# EAGLE library part LM3S9U96 (library stellaris)
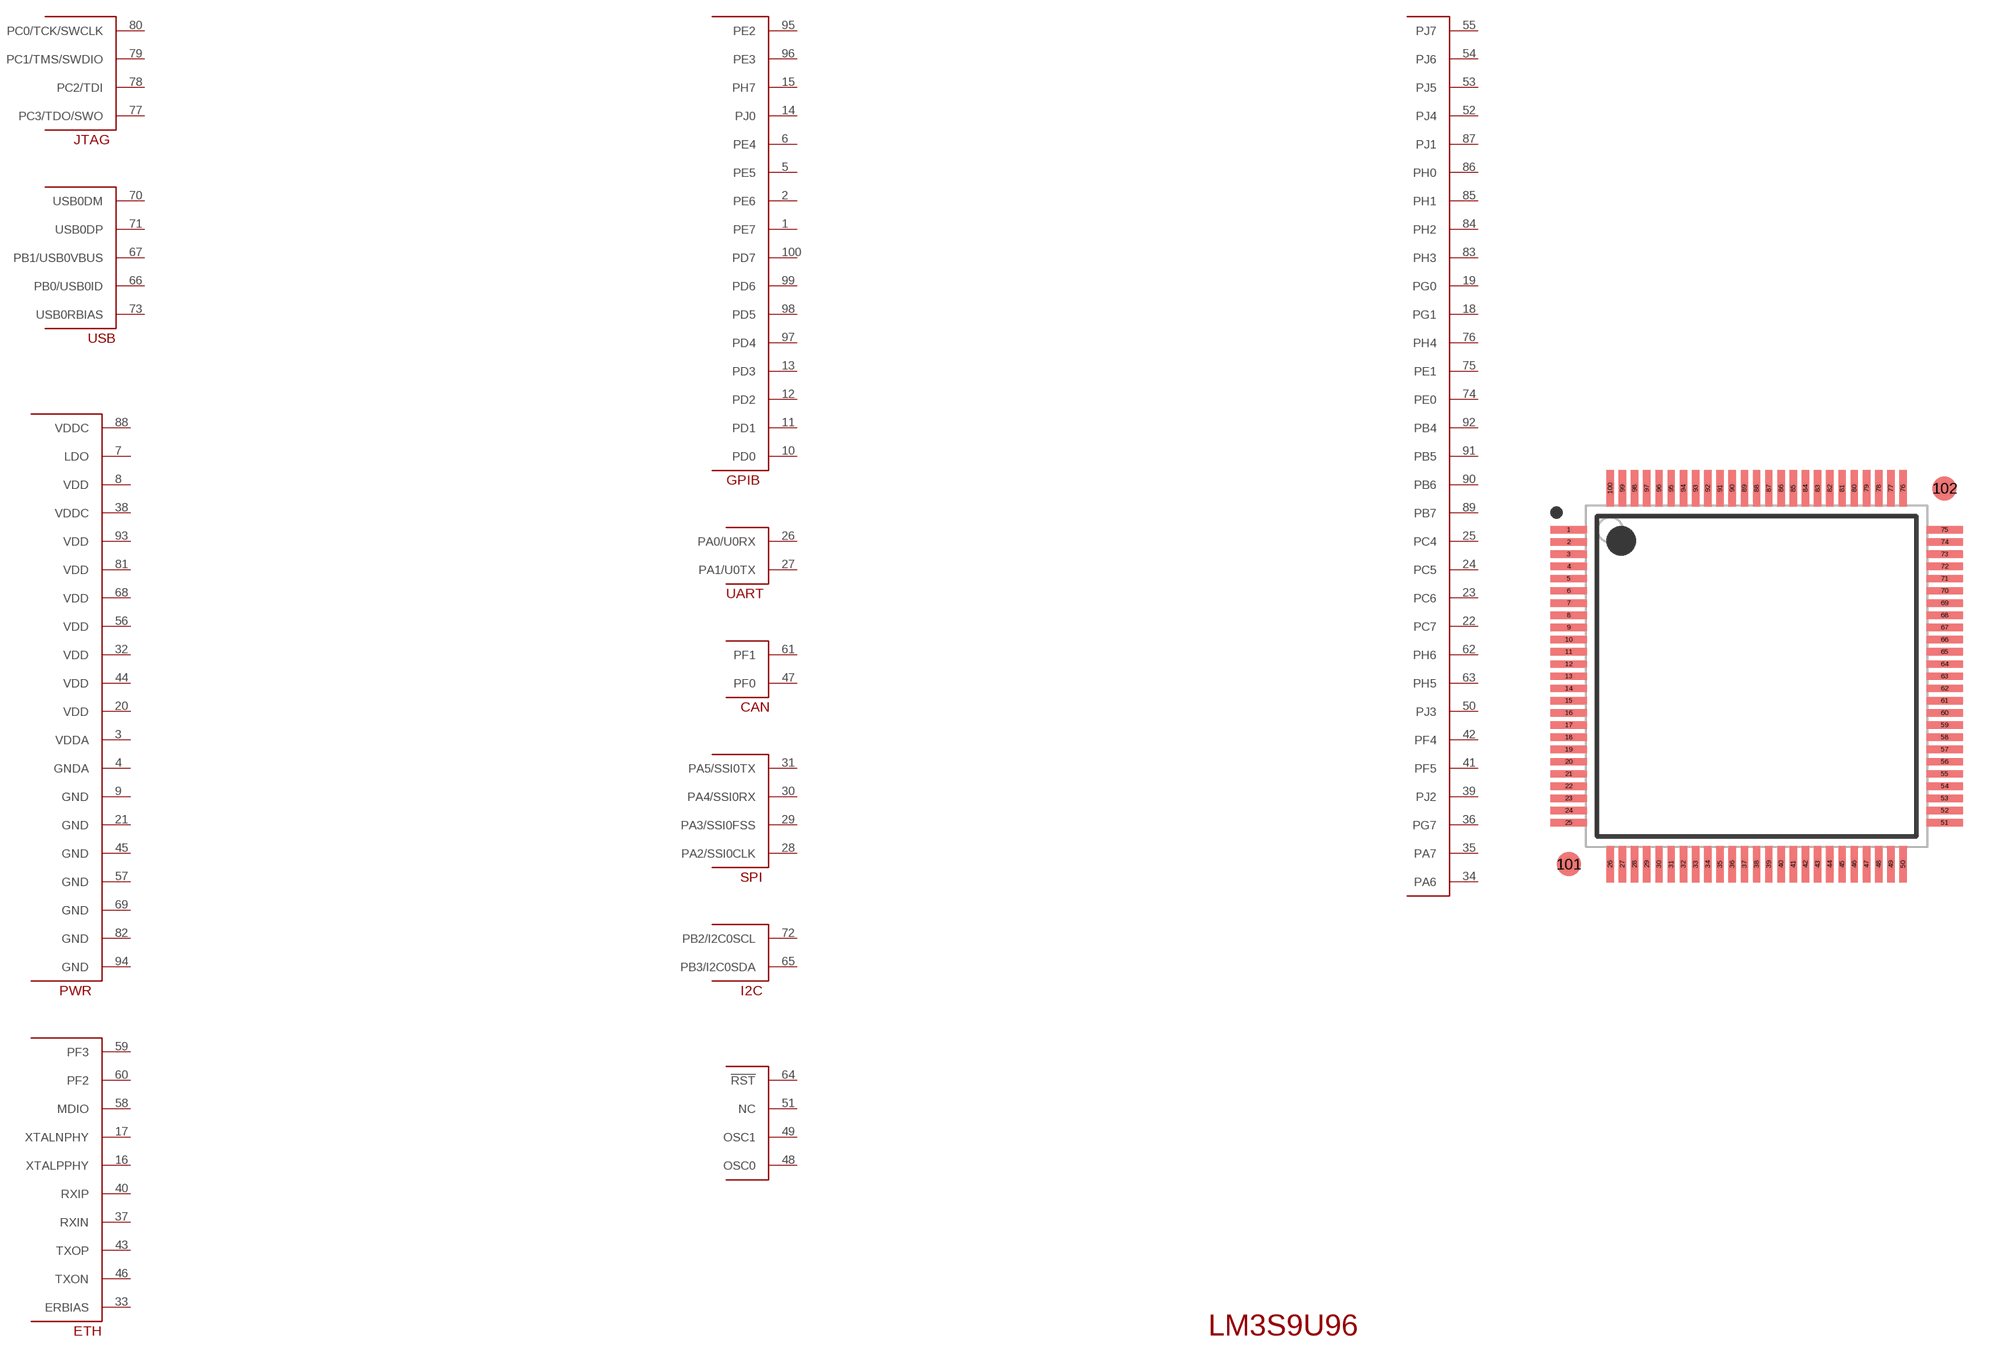
[diagram p1: symbol with the pads of QFP50P1600X1600X160-100N; footprint QFP50P1600X1600X160-100N]

Designator prefix -

## LM3S9U96  [QFP50P1600X1600X160-100N]
1  PE7
2  PE6
3  VDDA
4  GNDA
5  PE5
6  PE4
7  LDO
8  VDD
9  GND
10  PD0
11  PD1
12  PD2
13  PD3
14  PJ0
15  PH7
16  XTALPPHY
17  XTALNPHY
18  PG1
19  PG0
20  VDD
21  GND
22  PC7
23  PC6
24  PC5
25  PC4
26  PA0/U0RX
27  PA1/U0TX
28  PA2/SSI0CLK
29  PA3/SSI0FSS
30  PA4/SSI0RX
31  PA5/SSI0TX
32  VDD
33  ERBIAS
34  PA6
35  PA7
36  PG7
37  RXIN
38  VDDC
39  PJ2
40  RXIP
41  PF5
42  PF4
43  TXOP
44  VDD
45  GND
46  TXON
47  PF0
48  OSC0
49  OSC1
50  PJ3
51  NC
52  PJ4
53  PJ5
54  PJ6
55  PJ7
56  VDD
57  GND
58  MDIO
59  PF3
60  PF2
61  PF1
62  PH6
63  PH5
64  !RST
65  PB3/I2C0SDA
66  PB0/USB0ID
67  PB1/USB0VBUS
68  VDD
69  GND
70  USB0DM
71  USB0DP
72  PB2/I2C0SCL
73  USB0RBIAS
74  PE0
75  PE1
76  PH4
77  PC3/TDO/SWO
78  PC2/TDI
79  PC1/TMS/SWDIO
80  PC0/TCK/SWCLK
81  VDD
82  GND
83  PH3
84  PH2
85  PH1
86  PH0
87  PJ1
88  VDDC
89  PB7
90  PB6
91  PB5
92  PB4
93  VDD
94  GND
95  PE2
96  PE3
97  PD4
98  PD5
99  PD6
100  PD7

## Footprint QFP50P1600X1600X160-100N (pad centres in mm)
PCB Libraries Package
smd 1.5 x 0.3: 1 -7.7,6; 2 -7.7,5.5; 3 -7.7,5; 4 -7.7,4.5; 5 -7.7,4; 6 -7.7,3.5; 7 -7.7,3; 8 -7.7,2.5; 9 -7.7,2; 10 -7.7,1.5; 11 -7.7,1; 12 -7.7,0.5; 13 -7.7,0; 14 -7.7,-0.5; 15 -7.7,-1; 16 -7.7,-1.5; 17 -7.7,-2; 18 -7.7,-2.5; 19 -7.7,-3; 20 -7.7,-3.5; 21 -7.7,-4; 22 -7.7,-4.5; 23 -7.7,-5; 24 -7.7,-5.5; 25 -7.7,-6; 51 7.7,-6; 52 7.7,-5.5; 53 7.7,-5; 54 7.7,-4.5; 55 7.7,-4; 56 7.7,-3.5; 57 7.7,-3; 58 7.7,-2.5; 59 7.7,-2; 60 7.7,-1.5; 61 7.7,-1; 62 7.7,-0.5; 63 7.7,0; 64 7.7,0.5; 65 7.7,1; 66 7.7,1.5; 67 7.7,2; 68 7.7,2.5; 69 7.7,3; 70 7.7,3.5; 71 7.7,4; 72 7.7,4.5; 73 7.7,5; 74 7.7,5.5; 75 7.7,6
smd 0.3 x 1.5: 26 -6,-7.7; 27 -5.5,-7.7; 28 -5,-7.7; 29 -4.5,-7.7; 30 -4,-7.7; 31 -3.5,-7.7; 32 -3,-7.7; 33 -2.5,-7.7; 34 -2,-7.7; 35 -1.5,-7.7; 36 -1,-7.7; 37 -0.5,-7.7; 38 0,-7.7; 39 0.5,-7.7; 40 1,-7.7; 41 1.5,-7.7; 42 2,-7.7; 43 2.5,-7.7; 44 3,-7.7; 45 3.5,-7.7; 46 4,-7.7; 47 4.5,-7.7; 48 5,-7.7; 49 5.5,-7.7; 50 6,-7.7; 76 6,7.7; 77 5.5,7.7; 78 5,7.7; 79 4.5,7.7; 80 4,7.7; 81 3.5,7.7; 82 3,7.7; 83 2.5,7.7; 84 2,7.7; 85 1.5,7.7; 86 1,7.7; 87 0.5,7.7; 88 0,7.7; 89 -0.5,7.7; 90 -1,7.7; 91 -1.5,7.7; 92 -2,7.7; 93 -2.5,7.7; 94 -3,7.7; 95 -3.5,7.7; 96 -4,7.7; 97 -4.5,7.7; 98 -5,7.7; 99 -5.5,7.7; 100 -6,7.7
smd 1 x 1: 101 -7.7,-7.7; 102 7.7,7.7